# EAGLE library part FT230X (library chiptron_cz)
FT230X - USB basic UART - SSOP16
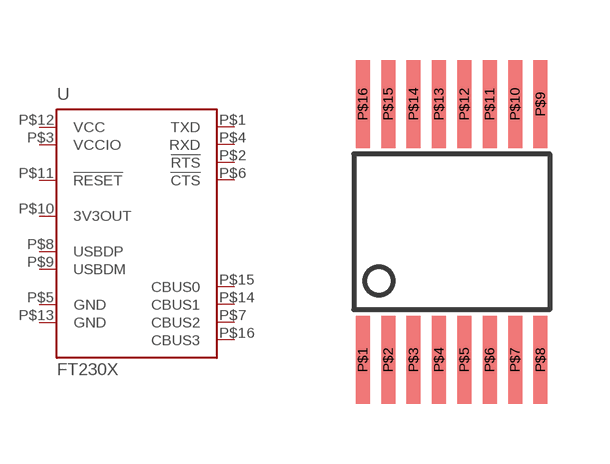
[diagram p9: symbol with the pads of SSOP16; footprint SSOP16]

Designator prefix -

## FT230X  [SSOP16]
P$1  TXD  out
P$2  !RTS  out
P$3  VCCIO  pwr
P$4  RXD  in
P$5  GND  pwr
P$6  !CTS  in
P$7  CBUS2
P$8  USBDP
P$9  USBDM
P$10  3V3OUT  out
P$11  !RESET  in
P$12  VCC  pwr
P$13  GND  pwr
P$14  CBUS1
P$15  CBUS0
P$16  CBUS3

## Footprint SSOP16 (pad centres in mm)
SSOP16 by http://petus.cz
smd 0.35 x 2.2: P$1 -2.223,-3.2; P$2 -1.587,-3.2; P$3 -0.953,-3.2; P$4 -0.318,-3.2; P$5 0.318,-3.2; P$6 0.953,-3.2; P$7 1.587,-3.2; P$8 2.223,-3.2; P$9 2.223,3.2; P$10 1.587,3.2; P$11 0.953,3.2; P$12 0.318,3.2; P$13 -0.318,3.2; P$14 -0.953,3.2; P$15 -1.587,3.2; P$16 -2.223,3.2